# Altium footprint library Connector_PinSocket_1.27mm.PcbLib: 246 footprints (part 10 of 16)
Each footprint in its own frame and in the unit in brackets; x right, y up, seen from the top. Pads: shape width x height; smd on the part's side, far side on the other; paste and mask are expansions set on the pad; w line width, h text height; cw(c..) or ccw(c..) is an arc to the next point about the centre after c.
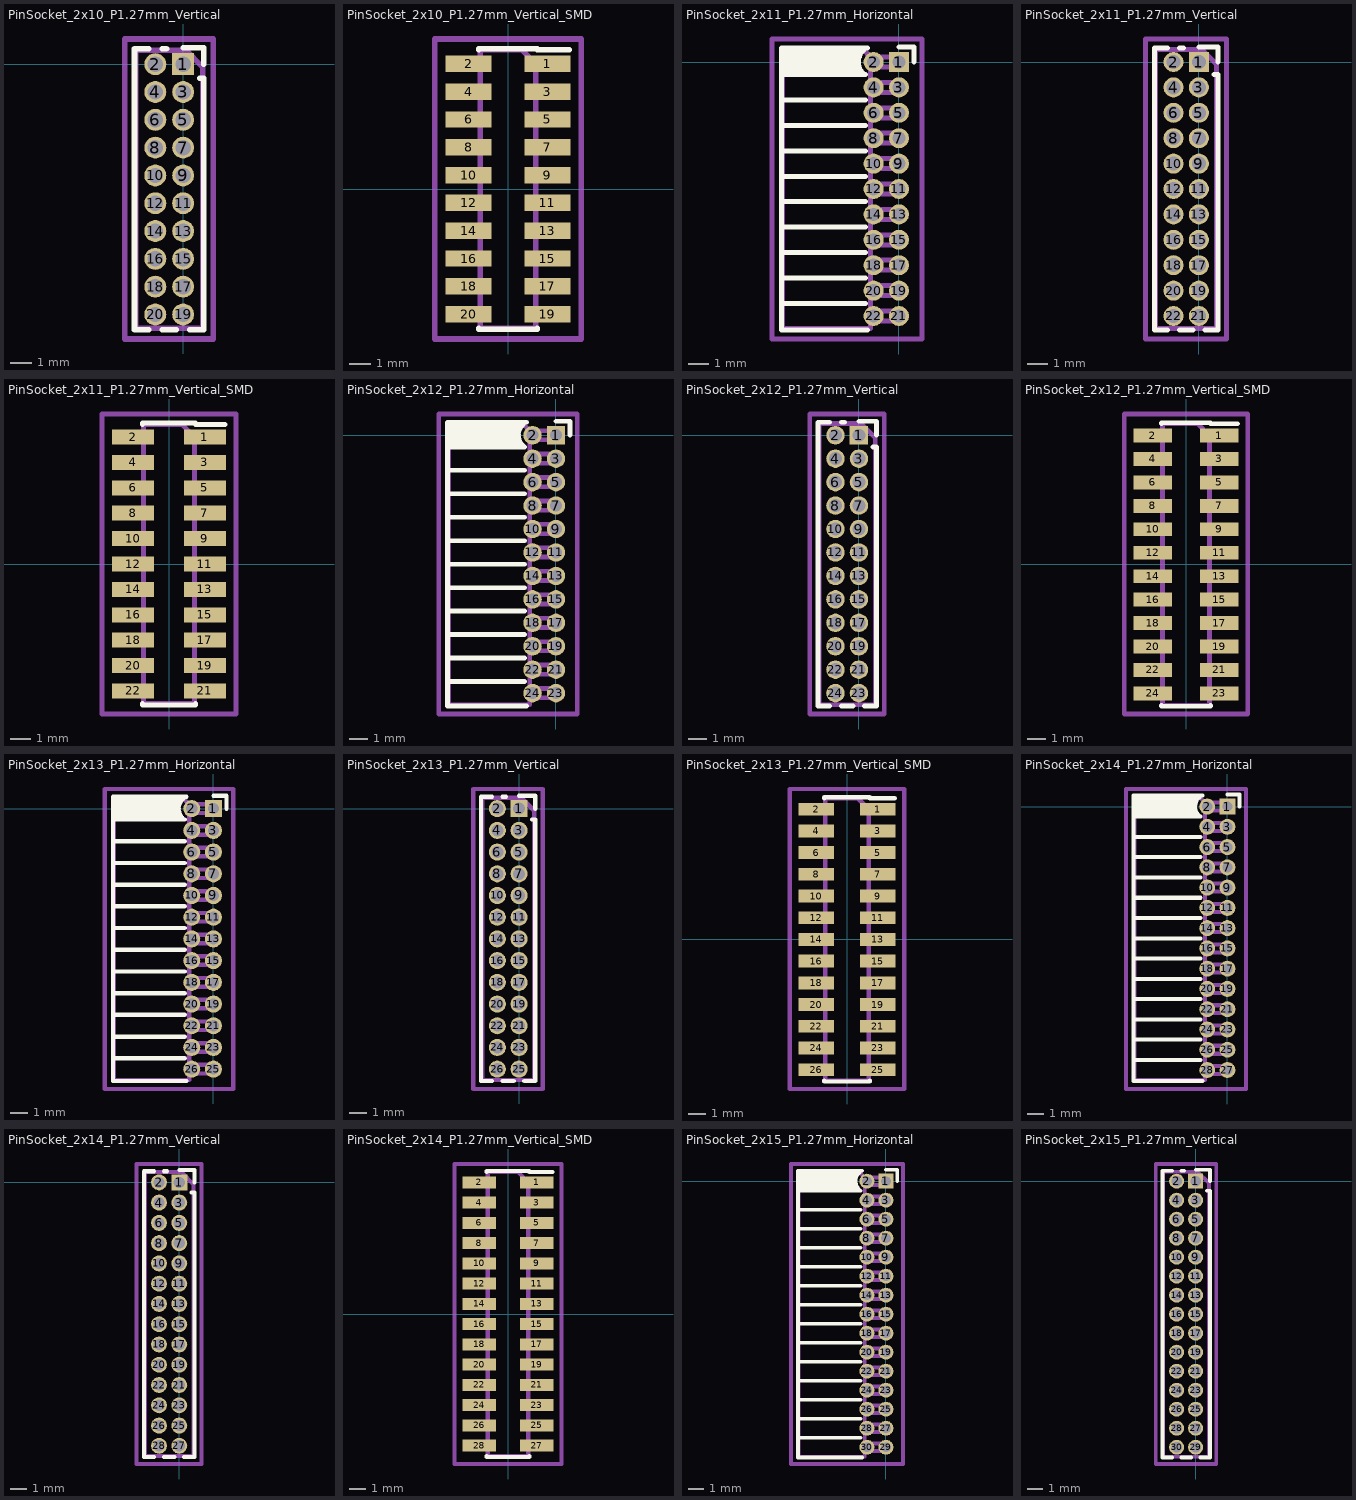
[diagram p9: the footprints below, top view; thin cyan lines are the x and y axes]

## PinSocket_2x10_P1.27mm_Vertical [mm]
pads (20):
  rect 1x1 hole 0.7: 1(0,0)
  round 1 hole 0.7: 2(-1.27,0) 3(0,-1.27) 4(-1.27,-1.27) 5(0,-2.54) 6(-1.27,-2.54) 7(0,-3.81) 8(-1.27,-3.81) 9(0,-5.08) 10(-1.27,-5.08) 11(0,-6.35) 12(-1.27,-6.35) 13(0,-7.62) 14(-1.27,-7.62) 15(0,-8.89) 16(-1.27,-8.89) 17(0,-10.16) 18(-1.27,-10.16) 19(0,-11.43) 20(-1.27,-11.43)
F.SilkS:
  lines w0.254: -1.578,-12.125 -2.22,-12.125 -2.22,0.695 -1.578,0.695 ; -0.962,-12.125 -0.308,-12.125 ; -0.962,0.695 -0.76,0.695 ; 0,0.76 0.95,0.76 0.95,0 ; 0.308,-12.125 0.95,-12.125 0.95,-0.635 0.76,-0.635
Top Assembly:
  lines w0.254: -2.16,-12.065 0.89,-12.065 0.89,-0.128 0.128,0.635 -2.16,0.635 -2.16,-12.065
  text "'.Designator'" at 0.205,-9.762 h1
Top Courtyard:
  lines w0.254: -2.67,-12.55 1.38,-12.55 1.38,1.15 -2.67,1.15 -2.67,-12.55
Top Designator:
  text ".Designator" at -8.263,-6.208 h1.52

## PinSocket_2x10_P1.27mm_Vertical_SMD [mm]
pads (20):
  rect 2.1x0.75 smd: 1(1.8,5.715) 2(-1.8,5.715) 3(1.8,4.445) 4(-1.8,4.445) 5(1.8,3.175) 6(-1.8,3.175) 7(1.8,1.905) 8(-1.8,1.905) 9(1.8,0.635) 10(-1.8,0.635) 11(1.8,-0.635) 12(-1.8,-0.635) 13(1.8,-1.905) 14(-1.8,-1.905) 15(1.8,-3.175) 16(-1.8,-3.175) 17(1.8,-4.445) 18(-1.8,-4.445) 19(1.8,-5.715) 20(-1.8,-5.715)
F.SilkS:
  lines w0.254: -1.33,-6.35 -1.33,-6.41 1.33,-6.41 1.33,-6.35 ; -1.33,6.35 -1.33,6.41 1.33,6.41 1.33,6.35 2.79,6.35
Top Assembly:
  lines w0.254: -1.27,-5.915 -2.555,-5.915 -2.555,-5.515 -1.27,-5.515 ; -1.27,-4.645 -2.555,-4.645 -2.555,-4.245 -1.27,-4.245 ; -1.27,-3.375 -2.555,-3.375 -2.555,-2.975 -1.27,-2.975 ; -1.27,-2.105 -2.555,-2.105 -2.555,-1.705 -1.27,-1.705 ; -1.27,-0.835 -2.555,-0.835 -2.555,-0.435 -1.27,-0.435 ; -1.27,0.435 -2.555,0.435 -2.555,0.835 -1.27,0.835 ; -1.27,1.705 -2.555,1.705 -2.555,2.105 -1.27,2.105 ; -1.27,2.975 -2.555,2.975 -2.555,3.375 -1.27,3.375 ; -1.27,4.245 -2.555,4.245 -2.555,4.645 -1.27,4.645 ; -1.27,5.515 -2.555,5.515 -2.555,5.915 -1.27,5.915 ; 1.27,-5.915 2.555,-5.915 2.555,-5.515 1.27,-5.515 ; 1.27,-4.645 2.555,-4.645 2.555,-4.245 1.27,-4.245 ; 1.27,-3.375 2.555,-3.375 2.555,-2.975 1.27,-2.975 ; 1.27,-2.105 2.555,-2.105 2.555,-1.705 1.27,-1.705 ; 1.27,-0.835 2.555,-0.835 2.555,-0.435 1.27,-0.435 ; 1.27,0.435 2.555,0.435 2.555,0.835 1.27,0.835 ; 1.27,1.705 2.555,1.705 2.555,2.105 1.27,2.105 ; 1.27,2.975 2.555,2.975 2.555,3.375 1.27,3.375 ; 1.27,4.245 2.555,4.245 2.555,4.645 1.27,4.645 ; 1.27,5.515 2.555,5.515 2.555,5.915 1.27,5.915 ; -1.27,-6.35 1.27,-6.35 1.27,5.715 0.635,6.35 -1.27,6.35 -1.27,-6.35
  text "'.Designator'" at 0.84,-4.047 h1
Top Courtyard:
  lines w0.254: -3.35,-6.85 3.35,-6.85 3.35,6.85 -3.35,6.85 -3.35,-6.85
Top Designator:
  text ".Designator" at -7.618,-0.508 h1.52

## PinSocket_2x11_P1.27mm_Horizontal [mm]
pads (22):
  rect 1x1 hole 0.65: 1(0,0)
  round 1 hole 0.65: 2(-1.27,0) 3(0,-1.27) 4(-1.27,-1.27) 5(0,-2.54) 6(-1.27,-2.54) 7(0,-3.81) 8(-1.27,-3.81) 9(0,-5.08) 10(-1.27,-5.08) 11(0,-6.35) 12(-1.27,-6.35) 13(0,-7.62) 14(-1.27,-7.62) 15(0,-8.89) 16(-1.27,-8.89) 17(0,-10.16) 18(-1.27,-10.16) 19(0,-11.43) 20(-1.27,-11.43) 21(0,-12.7) 22(-1.27,-12.7)
F.SilkS:
  lines w0.254: -5.88,-12.065 -1.688,-12.065 ; -5.88,-10.795 -1.688,-10.795 ; -5.88,-9.525 -1.688,-9.525 ; -5.88,-8.255 -1.688,-8.255 ; -5.88,-6.985 -1.688,-6.985 ; -5.88,-5.715 -1.688,-5.715 ; -5.88,-4.445 -1.688,-4.445 ; -5.88,-3.175 -1.688,-3.175 ; -5.88,-1.905 -1.688,-1.905 ; -5.88,-0.635 -1.688,-0.635 ; -5.88,-0.525 -1.82,-0.525 ; -5.88,-0.415 -1.907,-0.415 ; -5.88,-0.305 -1.966,-0.305 ; -5.88,-0.195 -2.005,-0.195 ; -5.88,-0.085 -2.025,-0.085 ; -5.88,0.025 -2.03,0.025 ; -5.88,0.135 -2.018,0.135 ; -5.88,0.245 -1.989,0.245 ; -5.88,0.355 -1.942,0.355 ; -5.88,0.465 -1.871,0.465 ; -5.88,0.575 -1.767,0.575 ; -1.578,-13.395 -5.88,-13.395 -5.88,0.695 -1.578,0.695 ; 0,0.76 0.76,0.76 0.76,0
Top Assembly:
  lines w0.254: -1.42,-12.95 0,-12.95 0,-12.45 -1.42,-12.45 ; -1.42,-11.68 0,-11.68 0,-11.18 -1.42,-11.18 ; -1.42,-10.41 0,-10.41 0,-9.91 -1.42,-9.91 ; -1.42,-9.14 0,-9.14 0,-8.64 -1.42,-8.64 ; -1.42,-7.87 0,-7.87 0,-7.37 -1.42,-7.37 ; -1.42,-6.6 0,-6.6 0,-6.1 -1.42,-6.1 ; -1.42,-5.33 0,-5.33 0,-4.83 -1.42,-4.83 ; -1.42,-4.06 0,-4.06 0,-3.56 -1.42,-3.56 ; -1.42,-2.79 0,-2.79 0,-2.29 -1.42,-2.29 ; -1.42,-1.52 0,-1.52 0,-1.02 -1.42,-1.02 ; -1.42,-0.25 0,-0.25 0,0.25 -1.42,0.25 ; -1.42,0.25 -1.42,-13.335 -5.82,-13.335 -5.82,0.635 -1.805,0.635 -1.42,0.25
  text "'.Designator'" at -2.78,-10.397 h1
Top Courtyard:
  lines w0.254: -6.35,-13.85 1.15,-13.85 1.15,1.15 -6.35,1.15 -6.35,-13.85
Top Designator:
  text ".Designator" at -10.218,-6.858 h1.52

## PinSocket_2x11_P1.27mm_Vertical [mm]
pads (22):
  rect 1x1 hole 0.7: 1(0,0)
  round 1 hole 0.7: 2(-1.27,0) 3(0,-1.27) 4(-1.27,-1.27) 5(0,-2.54) 6(-1.27,-2.54) 7(0,-3.81) 8(-1.27,-3.81) 9(0,-5.08) 10(-1.27,-5.08) 11(0,-6.35) 12(-1.27,-6.35) 13(0,-7.62) 14(-1.27,-7.62) 15(0,-8.89) 16(-1.27,-8.89) 17(0,-10.16) 18(-1.27,-10.16) 19(0,-11.43) 20(-1.27,-11.43) 21(0,-12.7) 22(-1.27,-12.7)
F.SilkS:
  lines w0.254: -1.578,-13.395 -2.22,-13.395 -2.22,0.695 -1.578,0.695 ; -0.962,-13.395 -0.308,-13.395 ; -0.962,0.695 -0.76,0.695 ; 0,0.76 0.95,0.76 0.95,0 ; 0.308,-13.395 0.95,-13.395 0.95,-0.635 0.76,-0.635
Top Assembly:
  lines w0.254: -2.16,-13.335 0.89,-13.335 0.89,-0.128 0.128,0.635 -2.16,0.635 -2.16,-13.335
  text "'.Designator'" at 0.205,-10.397 h1
Top Courtyard:
  lines w0.254: -2.67,-13.85 1.38,-13.85 1.38,1.15 -2.67,1.15 -2.67,-13.85
Top Designator:
  text ".Designator" at -8.263,-6.858 h1.52

## PinSocket_2x11_P1.27mm_Vertical_SMD [mm]
pads (22):
  rect 2.1x0.75 smd: 1(1.8,6.35) 2(-1.8,6.35) 3(1.8,5.08) 4(-1.8,5.08) 5(1.8,3.81) 6(-1.8,3.81) 7(1.8,2.54) 8(-1.8,2.54) 9(1.8,1.27) 10(-1.8,1.27) 11(1.8,0) 12(-1.8,0) 13(1.8,-1.27) 14(-1.8,-1.27) 15(1.8,-2.54) 16(-1.8,-2.54) 17(1.8,-3.81) 18(-1.8,-3.81) 19(1.8,-5.08) 20(-1.8,-5.08) 21(1.8,-6.35) 22(-1.8,-6.35)
F.SilkS:
  lines w0.254: -1.33,-6.985 -1.33,-7.045 1.33,-7.045 1.33,-6.985 ; -1.33,6.985 -1.33,7.045 1.33,7.045 1.33,6.985 2.79,6.985
Top Assembly:
  lines w0.254: -1.27,-6.55 -2.555,-6.55 -2.555,-6.15 -1.27,-6.15 ; -1.27,-5.28 -2.555,-5.28 -2.555,-4.88 -1.27,-4.88 ; -1.27,-4.01 -2.555,-4.01 -2.555,-3.61 -1.27,-3.61 ; -1.27,-2.74 -2.555,-2.74 -2.555,-2.34 -1.27,-2.34 ; -1.27,-1.47 -2.555,-1.47 -2.555,-1.07 -1.27,-1.07 ; -1.27,-0.2 -2.555,-0.2 -2.555,0.2 -1.27,0.2 ; -1.27,1.07 -2.555,1.07 -2.555,1.47 -1.27,1.47 ; -1.27,2.34 -2.555,2.34 -2.555,2.74 -1.27,2.74 ; -1.27,3.61 -2.555,3.61 -2.555,4.01 -1.27,4.01 ; -1.27,4.88 -2.555,4.88 -2.555,5.28 -1.27,5.28 ; -1.27,6.15 -2.555,6.15 -2.555,6.55 -1.27,6.55 ; 1.27,-6.55 2.555,-6.55 2.555,-6.15 1.27,-6.15 ; 1.27,-5.28 2.555,-5.28 2.555,-4.88 1.27,-4.88 ; 1.27,-4.01 2.555,-4.01 2.555,-3.61 1.27,-3.61 ; 1.27,-2.74 2.555,-2.74 2.555,-2.34 1.27,-2.34 ; 1.27,-1.47 2.555,-1.47 2.555,-1.07 1.27,-1.07 ; 1.27,-0.2 2.555,-0.2 2.555,0.2 1.27,0.2 ; 1.27,1.07 2.555,1.07 2.555,1.47 1.27,1.47 ; 1.27,2.34 2.555,2.34 2.555,2.74 1.27,2.74 ; 1.27,3.61 2.555,3.61 2.555,4.01 1.27,4.01 ; 1.27,4.88 2.555,4.88 2.555,5.28 1.27,5.28 ; 1.27,6.15 2.555,6.15 2.555,6.55 1.27,6.55 ; -1.27,-6.985 1.27,-6.985 1.27,6.35 0.635,6.985 -1.27,6.985 -1.27,-6.985
  text "'.Designator'" at 0.84,-4.047 h1
Top Courtyard:
  lines w0.254: -3.35,-7.5 3.35,-7.5 3.35,7.5 -3.35,7.5 -3.35,-7.5
Top Designator:
  text ".Designator" at -7.618,-0.508 h1.52

## PinSocket_2x12_P1.27mm_Horizontal [mm]
pads (24):
  rect 1x1 hole 0.65: 1(0,0)
  round 1 hole 0.65: 2(-1.27,0) 3(0,-1.27) 4(-1.27,-1.27) 5(0,-2.54) 6(-1.27,-2.54) 7(0,-3.81) 8(-1.27,-3.81) 9(0,-5.08) 10(-1.27,-5.08) 11(0,-6.35) 12(-1.27,-6.35) 13(0,-7.62) 14(-1.27,-7.62) 15(0,-8.89) 16(-1.27,-8.89) 17(0,-10.16) 18(-1.27,-10.16) 19(0,-11.43) 20(-1.27,-11.43) 21(0,-12.7) 22(-1.27,-12.7) 23(0,-13.97) 24(-1.27,-13.97)
F.SilkS:
  lines w0.254: -5.88,-13.335 -1.688,-13.335 ; -5.88,-12.065 -1.688,-12.065 ; -5.88,-10.795 -1.688,-10.795 ; -5.88,-9.525 -1.688,-9.525 ; -5.88,-8.255 -1.688,-8.255 ; -5.88,-6.985 -1.688,-6.985 ; -5.88,-5.715 -1.688,-5.715 ; -5.88,-4.445 -1.688,-4.445 ; -5.88,-3.175 -1.688,-3.175 ; -5.88,-1.905 -1.688,-1.905 ; -5.88,-0.635 -1.688,-0.635 ; -5.88,-0.525 -1.82,-0.525 ; -5.88,-0.415 -1.907,-0.415 ; -5.88,-0.305 -1.966,-0.305 ; -5.88,-0.195 -2.005,-0.195 ; -5.88,-0.085 -2.025,-0.085 ; -5.88,0.025 -2.03,0.025 ; -5.88,0.135 -2.018,0.135 ; -5.88,0.245 -1.989,0.245 ; -5.88,0.355 -1.942,0.355 ; -5.88,0.465 -1.871,0.465 ; -5.88,0.575 -1.767,0.575 ; -1.578,-14.665 -5.88,-14.665 -5.88,0.695 -1.578,0.695 ; 0,0.76 0.76,0.76 0.76,0
Top Assembly:
  lines w0.254: -1.42,-14.22 0,-14.22 0,-13.72 -1.42,-13.72 ; -1.42,-12.95 0,-12.95 0,-12.45 -1.42,-12.45 ; -1.42,-11.68 0,-11.68 0,-11.18 -1.42,-11.18 ; -1.42,-10.41 0,-10.41 0,-9.91 -1.42,-9.91 ; -1.42,-9.14 0,-9.14 0,-8.64 -1.42,-8.64 ; -1.42,-7.87 0,-7.87 0,-7.37 -1.42,-7.37 ; -1.42,-6.6 0,-6.6 0,-6.1 -1.42,-6.1 ; -1.42,-5.33 0,-5.33 0,-4.83 -1.42,-4.83 ; -1.42,-4.06 0,-4.06 0,-3.56 -1.42,-3.56 ; -1.42,-2.79 0,-2.79 0,-2.29 -1.42,-2.29 ; -1.42,-1.52 0,-1.52 0,-1.02 -1.42,-1.02 ; -1.42,-0.25 0,-0.25 0,0.25 -1.42,0.25 ; -1.42,0.25 -1.42,-14.605 -5.82,-14.605 -5.82,0.635 -1.805,0.635 -1.42,0.25
  text "'.Designator'" at -2.78,-11.032 h1
Top Courtyard:
  lines w0.254: -6.35,-15.1 1.15,-15.1 1.15,1.15 -6.35,1.15 -6.35,-15.1
Top Designator:
  text ".Designator" at -10.218,-7.483 h1.52

## PinSocket_2x12_P1.27mm_Vertical [mm]
pads (24):
  rect 1x1 hole 0.7: 1(0,0)
  round 1 hole 0.7: 2(-1.27,0) 3(0,-1.27) 4(-1.27,-1.27) 5(0,-2.54) 6(-1.27,-2.54) 7(0,-3.81) 8(-1.27,-3.81) 9(0,-5.08) 10(-1.27,-5.08) 11(0,-6.35) 12(-1.27,-6.35) 13(0,-7.62) 14(-1.27,-7.62) 15(0,-8.89) 16(-1.27,-8.89) 17(0,-10.16) 18(-1.27,-10.16) 19(0,-11.43) 20(-1.27,-11.43) 21(0,-12.7) 22(-1.27,-12.7) 23(0,-13.97) 24(-1.27,-13.97)
F.SilkS:
  lines w0.254: -1.578,-14.665 -2.22,-14.665 -2.22,0.695 -1.578,0.695 ; -0.962,-14.665 -0.308,-14.665 ; -0.962,0.695 -0.76,0.695 ; 0,0.76 0.95,0.76 0.95,0 ; 0.308,-14.665 0.95,-14.665 0.95,-0.635 0.76,-0.635
Top Assembly:
  lines w0.254: -2.16,-14.605 0.89,-14.605 0.89,-0.128 0.128,0.635 -2.16,0.635 -2.16,-14.605
  text "'.Designator'" at 0.205,-11.032 h1
Top Courtyard:
  lines w0.254: -2.67,-15.1 1.38,-15.1 1.38,1.15 -2.67,1.15 -2.67,-15.1
Top Designator:
  text ".Designator" at -8.263,-7.483 h1.52

## PinSocket_2x12_P1.27mm_Vertical_SMD [mm]
pads (24):
  rect 2.1x0.75 smd: 1(1.8,6.985) 2(-1.8,6.985) 3(1.8,5.715) 4(-1.8,5.715) 5(1.8,4.445) 6(-1.8,4.445) 7(1.8,3.175) 8(-1.8,3.175) 9(1.8,1.905) 10(-1.8,1.905) 11(1.8,0.635) 12(-1.8,0.635) 13(1.8,-0.635) 14(-1.8,-0.635) 15(1.8,-1.905) 16(-1.8,-1.905) 17(1.8,-3.175) 18(-1.8,-3.175) 19(1.8,-4.445) 20(-1.8,-4.445) 21(1.8,-5.715) 22(-1.8,-5.715) 23(1.8,-6.985) 24(-1.8,-6.985)
F.SilkS:
  lines w0.254: -1.33,-7.62 -1.33,-7.68 1.33,-7.68 1.33,-7.62 ; -1.33,7.62 -1.33,7.68 1.33,7.68 1.33,7.62 2.79,7.62
Top Assembly:
  lines w0.254: -1.27,-7.185 -2.555,-7.185 -2.555,-6.785 -1.27,-6.785 ; -1.27,-5.915 -2.555,-5.915 -2.555,-5.515 -1.27,-5.515 ; -1.27,-4.645 -2.555,-4.645 -2.555,-4.245 -1.27,-4.245 ; -1.27,-3.375 -2.555,-3.375 -2.555,-2.975 -1.27,-2.975 ; -1.27,-2.105 -2.555,-2.105 -2.555,-1.705 -1.27,-1.705 ; -1.27,-0.835 -2.555,-0.835 -2.555,-0.435 -1.27,-0.435 ; -1.27,0.435 -2.555,0.435 -2.555,0.835 -1.27,0.835 ; -1.27,1.705 -2.555,1.705 -2.555,2.105 -1.27,2.105 ; -1.27,2.975 -2.555,2.975 -2.555,3.375 -1.27,3.375 ; -1.27,4.245 -2.555,4.245 -2.555,4.645 -1.27,4.645 ; -1.27,5.515 -2.555,5.515 -2.555,5.915 -1.27,5.915 ; -1.27,6.785 -2.555,6.785 -2.555,7.185 -1.27,7.185 ; 1.27,-7.185 2.555,-7.185 2.555,-6.785 1.27,-6.785 ; 1.27,-5.915 2.555,-5.915 2.555,-5.515 1.27,-5.515 ; 1.27,-4.645 2.555,-4.645 2.555,-4.245 1.27,-4.245 ; 1.27,-3.375 2.555,-3.375 2.555,-2.975 1.27,-2.975 ; 1.27,-2.105 2.555,-2.105 2.555,-1.705 1.27,-1.705 ; 1.27,-0.835 2.555,-0.835 2.555,-0.435 1.27,-0.435 ; 1.27,0.435 2.555,0.435 2.555,0.835 1.27,0.835 ; 1.27,1.705 2.555,1.705 2.555,2.105 1.27,2.105 ; 1.27,2.975 2.555,2.975 2.555,3.375 1.27,3.375 ; 1.27,4.245 2.555,4.245 2.555,4.645 1.27,4.645 ; 1.27,5.515 2.555,5.515 2.555,5.915 1.27,5.915 ; 1.27,6.785 2.555,6.785 2.555,7.185 1.27,7.185 ; -1.27,-7.62 1.27,-7.62 1.27,6.985 0.635,7.62 -1.27,7.62 -1.27,-7.62
  text "'.Designator'" at 0.84,-4.047 h1
Top Courtyard:
  lines w0.254: -3.35,-8.1 3.35,-8.1 3.35,8.15 -3.35,8.15 -3.35,-8.1
Top Designator:
  text ".Designator" at -7.618,-0.483 h1.52

## PinSocket_2x13_P1.27mm_Horizontal [mm]
pads (26):
  rect 1x1 hole 0.65: 1(0,0)
  round 1 hole 0.65: 2(-1.27,0) 3(0,-1.27) 4(-1.27,-1.27) 5(0,-2.54) 6(-1.27,-2.54) 7(0,-3.81) 8(-1.27,-3.81) 9(0,-5.08) 10(-1.27,-5.08) 11(0,-6.35) 12(-1.27,-6.35) 13(0,-7.62) 14(-1.27,-7.62) 15(0,-8.89) 16(-1.27,-8.89) 17(0,-10.16) 18(-1.27,-10.16) 19(0,-11.43) 20(-1.27,-11.43) 21(0,-12.7) 22(-1.27,-12.7) 23(0,-13.97) 24(-1.27,-13.97) 25(0,-15.24) 26(-1.27,-15.24)
F.SilkS:
  lines w0.254: -5.88,-14.605 -1.688,-14.605 ; -5.88,-13.335 -1.688,-13.335 ; -5.88,-12.065 -1.688,-12.065 ; -5.88,-10.795 -1.688,-10.795 ; -5.88,-9.525 -1.688,-9.525 ; -5.88,-8.255 -1.688,-8.255 ; -5.88,-6.985 -1.688,-6.985 ; -5.88,-5.715 -1.688,-5.715 ; -5.88,-4.445 -1.688,-4.445 ; -5.88,-3.175 -1.688,-3.175 ; -5.88,-1.905 -1.688,-1.905 ; -5.88,-0.635 -1.688,-0.635 ; -5.88,-0.525 -1.82,-0.525 ; -5.88,-0.415 -1.907,-0.415 ; -5.88,-0.305 -1.966,-0.305 ; -5.88,-0.195 -2.005,-0.195 ; -5.88,-0.085 -2.025,-0.085 ; -5.88,0.025 -2.03,0.025 ; -5.88,0.135 -2.018,0.135 ; -5.88,0.245 -1.989,0.245 ; -5.88,0.355 -1.942,0.355 ; -5.88,0.465 -1.871,0.465 ; -5.88,0.575 -1.767,0.575 ; -1.578,-15.935 -5.88,-15.935 -5.88,0.695 -1.578,0.695 ; 0,0.76 0.76,0.76 0.76,0
Top Assembly:
  lines w0.254: -1.42,-15.49 0,-15.49 0,-14.99 -1.42,-14.99 ; -1.42,-14.22 0,-14.22 0,-13.72 -1.42,-13.72 ; -1.42,-12.95 0,-12.95 0,-12.45 -1.42,-12.45 ; -1.42,-11.68 0,-11.68 0,-11.18 -1.42,-11.18 ; -1.42,-10.41 0,-10.41 0,-9.91 -1.42,-9.91 ; -1.42,-9.14 0,-9.14 0,-8.64 -1.42,-8.64 ; -1.42,-7.87 0,-7.87 0,-7.37 -1.42,-7.37 ; -1.42,-6.6 0,-6.6 0,-6.1 -1.42,-6.1 ; -1.42,-5.33 0,-5.33 0,-4.83 -1.42,-4.83 ; -1.42,-4.06 0,-4.06 0,-3.56 -1.42,-3.56 ; -1.42,-2.79 0,-2.79 0,-2.29 -1.42,-2.29 ; -1.42,-1.52 0,-1.52 0,-1.02 -1.42,-1.02 ; -1.42,-0.25 0,-0.25 0,0.25 -1.42,0.25 ; -1.42,0.25 -1.42,-15.875 -5.82,-15.875 -5.82,0.635 -1.805,0.635 -1.42,0.25
  text "'.Designator'" at -2.78,-11.667 h1
Top Courtyard:
  lines w0.254: -6.35,-16.4 1.15,-16.4 1.15,1.15 -6.35,1.15 -6.35,-16.4
Top Designator:
  text ".Designator" at -10.218,-8.133 h1.52

## PinSocket_2x13_P1.27mm_Vertical [mm]
pads (26):
  rect 1x1 hole 0.7: 1(0,0)
  round 1 hole 0.7: 2(-1.27,0) 3(0,-1.27) 4(-1.27,-1.27) 5(0,-2.54) 6(-1.27,-2.54) 7(0,-3.81) 8(-1.27,-3.81) 9(0,-5.08) 10(-1.27,-5.08) 11(0,-6.35) 12(-1.27,-6.35) 13(0,-7.62) 14(-1.27,-7.62) 15(0,-8.89) 16(-1.27,-8.89) 17(0,-10.16) 18(-1.27,-10.16) 19(0,-11.43) 20(-1.27,-11.43) 21(0,-12.7) 22(-1.27,-12.7) 23(0,-13.97) 24(-1.27,-13.97) 25(0,-15.24) 26(-1.27,-15.24)
F.SilkS:
  lines w0.254: -1.578,-15.935 -2.22,-15.935 -2.22,0.695 -1.578,0.695 ; -0.962,-15.935 -0.308,-15.935 ; -0.962,0.695 -0.76,0.695 ; 0,0.76 0.95,0.76 0.95,0 ; 0.308,-15.935 0.95,-15.935 0.95,-0.635 0.76,-0.635
Top Assembly:
  lines w0.254: -2.16,-15.875 0.89,-15.875 0.89,-0.128 0.128,0.635 -2.16,0.635 -2.16,-15.875
  text "'.Designator'" at 0.205,-11.667 h1
Top Courtyard:
  lines w0.254: -2.67,-16.4 1.38,-16.4 1.38,1.15 -2.67,1.15 -2.67,-16.4
Top Designator:
  text ".Designator" at -8.263,-8.133 h1.52

## PinSocket_2x13_P1.27mm_Vertical_SMD [mm]
pads (26):
  rect 2.1x0.75 smd: 1(1.8,7.62) 2(-1.8,7.62) 3(1.8,6.35) 4(-1.8,6.35) 5(1.8,5.08) 6(-1.8,5.08) 7(1.8,3.81) 8(-1.8,3.81) 9(1.8,2.54) 10(-1.8,2.54) 11(1.8,1.27) 12(-1.8,1.27) 13(1.8,0) 14(-1.8,0) 15(1.8,-1.27) 16(-1.8,-1.27) 17(1.8,-2.54) 18(-1.8,-2.54) 19(1.8,-3.81) 20(-1.8,-3.81) 21(1.8,-5.08) 22(-1.8,-5.08) 23(1.8,-6.35) 24(-1.8,-6.35) 25(1.8,-7.62) 26(-1.8,-7.62)
F.SilkS:
  lines w0.254: -1.33,-8.255 -1.33,-8.315 1.33,-8.315 1.33,-8.255 ; -1.33,8.255 -1.33,8.315 1.33,8.315 1.33,8.255 2.79,8.255
Top Assembly:
  lines w0.254: -1.27,-7.82 -2.555,-7.82 -2.555,-7.42 -1.27,-7.42 ; -1.27,-6.55 -2.555,-6.55 -2.555,-6.15 -1.27,-6.15 ; -1.27,-5.28 -2.555,-5.28 -2.555,-4.88 -1.27,-4.88 ; -1.27,-4.01 -2.555,-4.01 -2.555,-3.61 -1.27,-3.61 ; -1.27,-2.74 -2.555,-2.74 -2.555,-2.34 -1.27,-2.34 ; -1.27,-1.47 -2.555,-1.47 -2.555,-1.07 -1.27,-1.07 ; -1.27,-0.2 -2.555,-0.2 -2.555,0.2 -1.27,0.2 ; -1.27,1.07 -2.555,1.07 -2.555,1.47 -1.27,1.47 ; -1.27,2.34 -2.555,2.34 -2.555,2.74 -1.27,2.74 ; -1.27,3.61 -2.555,3.61 -2.555,4.01 -1.27,4.01 ; -1.27,4.88 -2.555,4.88 -2.555,5.28 -1.27,5.28 ; -1.27,6.15 -2.555,6.15 -2.555,6.55 -1.27,6.55 ; -1.27,7.42 -2.555,7.42 -2.555,7.82 -1.27,7.82 ; 1.27,-7.82 2.555,-7.82 2.555,-7.42 1.27,-7.42 ; 1.27,-6.55 2.555,-6.55 2.555,-6.15 1.27,-6.15 ; 1.27,-5.28 2.555,-5.28 2.555,-4.88 1.27,-4.88 ; 1.27,-4.01 2.555,-4.01 2.555,-3.61 1.27,-3.61 ; 1.27,-2.74 2.555,-2.74 2.555,-2.34 1.27,-2.34 ; 1.27,-1.47 2.555,-1.47 2.555,-1.07 1.27,-1.07 ; 1.27,-0.2 2.555,-0.2 2.555,0.2 1.27,0.2 ; 1.27,1.07 2.555,1.07 2.555,1.47 1.27,1.47 ; 1.27,2.34 2.555,2.34 2.555,2.74 1.27,2.74 ; 1.27,3.61 2.555,3.61 2.555,4.01 1.27,4.01 ; 1.27,4.88 2.555,4.88 2.555,5.28 1.27,5.28 ; 1.27,6.15 2.555,6.15 2.555,6.55 1.27,6.55 ; 1.27,7.42 2.555,7.42 2.555,7.82 1.27,7.82 ; -1.27,-8.255 1.27,-8.255 1.27,7.62 0.635,8.255 -1.27,8.255 -1.27,-8.255
  text "'.Designator'" at 0.84,-4.047 h1
Top Courtyard:
  lines w0.254: -3.35,-8.75 3.35,-8.75 3.35,8.8 -3.35,8.8 -3.35,-8.75
Top Designator:
  text ".Designator" at -7.618,-0.483 h1.52

## PinSocket_2x14_P1.27mm_Horizontal [mm]
pads (28):
  rect 1x1 hole 0.65: 1(0,0)
  round 1 hole 0.65: 2(-1.27,0) 3(0,-1.27) 4(-1.27,-1.27) 5(0,-2.54) 6(-1.27,-2.54) 7(0,-3.81) 8(-1.27,-3.81) 9(0,-5.08) 10(-1.27,-5.08) 11(0,-6.35) 12(-1.27,-6.35) 13(0,-7.62) 14(-1.27,-7.62) 15(0,-8.89) 16(-1.27,-8.89) 17(0,-10.16) 18(-1.27,-10.16) 19(0,-11.43) 20(-1.27,-11.43) 21(0,-12.7) 22(-1.27,-12.7) 23(0,-13.97) 24(-1.27,-13.97) 25(0,-15.24) 26(-1.27,-15.24) 27(0,-16.51) 28(-1.27,-16.51)
F.SilkS:
  lines w0.254: -5.88,-15.875 -1.688,-15.875 ; -5.88,-14.605 -1.688,-14.605 ; -5.88,-13.335 -1.688,-13.335 ; -5.88,-12.065 -1.688,-12.065 ; -5.88,-10.795 -1.688,-10.795 ; -5.88,-9.525 -1.688,-9.525 ; -5.88,-8.255 -1.688,-8.255 ; -5.88,-6.985 -1.688,-6.985 ; -5.88,-5.715 -1.688,-5.715 ; -5.88,-4.445 -1.688,-4.445 ; -5.88,-3.175 -1.688,-3.175 ; -5.88,-1.905 -1.688,-1.905 ; -5.88,-0.635 -1.688,-0.635 ; -5.88,-0.525 -1.82,-0.525 ; -5.88,-0.415 -1.907,-0.415 ; -5.88,-0.305 -1.966,-0.305 ; -5.88,-0.195 -2.005,-0.195 ; -5.88,-0.085 -2.025,-0.085 ; -5.88,0.025 -2.03,0.025 ; -5.88,0.135 -2.018,0.135 ; -5.88,0.245 -1.989,0.245 ; -5.88,0.355 -1.942,0.355 ; -5.88,0.465 -1.871,0.465 ; -5.88,0.575 -1.767,0.575 ; -1.578,-17.205 -5.88,-17.205 -5.88,0.695 -1.578,0.695 ; 0,0.76 0.76,0.76 0.76,0
Top Assembly:
  lines w0.254: -1.42,-16.76 0,-16.76 0,-16.26 -1.42,-16.26 ; -1.42,-15.49 0,-15.49 0,-14.99 -1.42,-14.99 ; -1.42,-14.22 0,-14.22 0,-13.72 -1.42,-13.72 ; -1.42,-12.95 0,-12.95 0,-12.45 -1.42,-12.45 ; -1.42,-11.68 0,-11.68 0,-11.18 -1.42,-11.18 ; -1.42,-10.41 0,-10.41 0,-9.91 -1.42,-9.91 ; -1.42,-9.14 0,-9.14 0,-8.64 -1.42,-8.64 ; -1.42,-7.87 0,-7.87 0,-7.37 -1.42,-7.37 ; -1.42,-6.6 0,-6.6 0,-6.1 -1.42,-6.1 ; -1.42,-5.33 0,-5.33 0,-4.83 -1.42,-4.83 ; -1.42,-4.06 0,-4.06 0,-3.56 -1.42,-3.56 ; -1.42,-2.79 0,-2.79 0,-2.29 -1.42,-2.29 ; -1.42,-1.52 0,-1.52 0,-1.02 -1.42,-1.02 ; -1.42,-0.25 0,-0.25 0,0.25 -1.42,0.25 ; -1.42,0.25 -1.42,-17.145 -5.82,-17.145 -5.82,0.635 -1.805,0.635 -1.42,0.25
  text "'.Designator'" at -2.78,-12.302 h1
Top Courtyard:
  lines w0.254: -6.35,-17.7 1.15,-17.7 1.15,1.1 -6.35,1.1 -6.35,-17.7
Top Designator:
  text ".Designator" at -10.218,-8.808 h1.52

## PinSocket_2x14_P1.27mm_Vertical [mm]
pads (28):
  rect 1x1 hole 0.7: 1(0,0)
  round 1 hole 0.7: 2(-1.27,0) 3(0,-1.27) 4(-1.27,-1.27) 5(0,-2.54) 6(-1.27,-2.54) 7(0,-3.81) 8(-1.27,-3.81) 9(0,-5.08) 10(-1.27,-5.08) 11(0,-6.35) 12(-1.27,-6.35) 13(0,-7.62) 14(-1.27,-7.62) 15(0,-8.89) 16(-1.27,-8.89) 17(0,-10.16) 18(-1.27,-10.16) 19(0,-11.43) 20(-1.27,-11.43) 21(0,-12.7) 22(-1.27,-12.7) 23(0,-13.97) 24(-1.27,-13.97) 25(0,-15.24) 26(-1.27,-15.24) 27(0,-16.51) 28(-1.27,-16.51)
F.SilkS:
  lines w0.254: -1.578,-17.205 -2.22,-17.205 -2.22,0.695 -1.578,0.695 ; -0.962,-17.205 -0.308,-17.205 ; -0.962,0.695 -0.76,0.695 ; 0,0.76 0.95,0.76 0.95,0 ; 0.308,-17.205 0.95,-17.205 0.95,-0.635 0.76,-0.635
Top Assembly:
  lines w0.254: -2.16,-17.145 0.89,-17.145 0.89,-0.128 0.128,0.635 -2.16,0.635 -2.16,-17.145
  text "'.Designator'" at 0.205,-12.302 h1
Top Courtyard:
  lines w0.254: -2.67,-17.65 1.38,-17.65 1.38,1.15 -2.67,1.15 -2.67,-17.65
Top Designator:
  text ".Designator" at -8.263,-8.758 h1.52

## PinSocket_2x14_P1.27mm_Vertical_SMD [mm]
pads (28):
  rect 2.1x0.75 smd: 1(1.8,8.255) 2(-1.8,8.255) 3(1.8,6.985) 4(-1.8,6.985) 5(1.8,5.715) 6(-1.8,5.715) 7(1.8,4.445) 8(-1.8,4.445) 9(1.8,3.175) 10(-1.8,3.175) 11(1.8,1.905) 12(-1.8,1.905) 13(1.8,0.635) 14(-1.8,0.635) 15(1.8,-0.635) 16(-1.8,-0.635) 17(1.8,-1.905) 18(-1.8,-1.905) 19(1.8,-3.175) 20(-1.8,-3.175) 21(1.8,-4.445) 22(-1.8,-4.445) 23(1.8,-5.715) 24(-1.8,-5.715) 25(1.8,-6.985) 26(-1.8,-6.985) 27(1.8,-8.255) 28(-1.8,-8.255)
F.SilkS:
  lines w0.254: -1.33,-8.89 -1.33,-8.95 1.33,-8.95 1.33,-8.89 ; -1.33,8.89 -1.33,8.95 1.33,8.95 1.33,8.89 2.79,8.89
Top Assembly:
  lines w0.254: -1.27,-8.455 -2.555,-8.455 -2.555,-8.055 -1.27,-8.055 ; -1.27,-7.185 -2.555,-7.185 -2.555,-6.785 -1.27,-6.785 ; -1.27,-5.915 -2.555,-5.915 -2.555,-5.515 -1.27,-5.515 ; -1.27,-4.645 -2.555,-4.645 -2.555,-4.245 -1.27,-4.245 ; -1.27,-3.375 -2.555,-3.375 -2.555,-2.975 -1.27,-2.975 ; -1.27,-2.105 -2.555,-2.105 -2.555,-1.705 -1.27,-1.705 ; -1.27,-0.835 -2.555,-0.835 -2.555,-0.435 -1.27,-0.435 ; -1.27,0.435 -2.555,0.435 -2.555,0.835 -1.27,0.835 ; -1.27,1.705 -2.555,1.705 -2.555,2.105 -1.27,2.105 ; -1.27,2.975 -2.555,2.975 -2.555,3.375 -1.27,3.375 ; -1.27,4.245 -2.555,4.245 -2.555,4.645 -1.27,4.645 ; -1.27,5.515 -2.555,5.515 -2.555,5.915 -1.27,5.915 ; -1.27,6.785 -2.555,6.785 -2.555,7.185 -1.27,7.185 ; -1.27,8.055 -2.555,8.055 -2.555,8.455 -1.27,8.455 ; 1.27,-8.455 2.555,-8.455 2.555,-8.055 1.27,-8.055 ; 1.27,-7.185 2.555,-7.185 2.555,-6.785 1.27,-6.785 ; 1.27,-5.915 2.555,-5.915 2.555,-5.515 1.27,-5.515 ; 1.27,-4.645 2.555,-4.645 2.555,-4.245 1.27,-4.245 ; 1.27,-3.375 2.555,-3.375 2.555,-2.975 1.27,-2.975 ; 1.27,-2.105 2.555,-2.105 2.555,-1.705 1.27,-1.705 ; 1.27,-0.835 2.555,-0.835 2.555,-0.435 1.27,-0.435 ; 1.27,0.435 2.555,0.435 2.555,0.835 1.27,0.835 ; 1.27,1.705 2.555,1.705 2.555,2.105 1.27,2.105 ; 1.27,2.975 2.555,2.975 2.555,3.375 1.27,3.375 ; 1.27,4.245 2.555,4.245 2.555,4.645 1.27,4.645 ; 1.27,5.515 2.555,5.515 2.555,5.915 1.27,5.915 ; 1.27,6.785 2.555,6.785 2.555,7.185 1.27,7.185 ; 1.27,8.055 2.555,8.055 2.555,8.455 1.27,8.455 ; -1.27,-8.89 1.27,-8.89 1.27,8.255 0.635,8.89 -1.27,8.89 -1.27,-8.89
  text "'.Designator'" at 0.84,-4.047 h1
Top Courtyard:
  lines w0.254: -3.35,-9.4 3.35,-9.4 3.35,9.4 -3.35,9.4 -3.35,-9.4
Top Designator:
  text ".Designator" at -7.618,-0.508 h1.52

## PinSocket_2x15_P1.27mm_Horizontal [mm]
pads (30):
  rect 1x1 hole 0.65: 1(0,0)
  round 1 hole 0.65: 2(-1.27,0) 3(0,-1.27) 4(-1.27,-1.27) 5(0,-2.54) 6(-1.27,-2.54) 7(0,-3.81) 8(-1.27,-3.81) 9(0,-5.08) 10(-1.27,-5.08) 11(0,-6.35) 12(-1.27,-6.35) 13(0,-7.62) 14(-1.27,-7.62) 15(0,-8.89) 16(-1.27,-8.89) 17(0,-10.16) 18(-1.27,-10.16) 19(0,-11.43) 20(-1.27,-11.43) 21(0,-12.7) 22(-1.27,-12.7) 23(0,-13.97) 24(-1.27,-13.97) 25(0,-15.24) 26(-1.27,-15.24) 27(0,-16.51) 28(-1.27,-16.51) 29(0,-17.78) 30(-1.27,-17.78)
F.SilkS:
  lines w0.254: -5.88,-17.145 -1.688,-17.145 ; -5.88,-15.875 -1.688,-15.875 ; -5.88,-14.605 -1.688,-14.605 ; -5.88,-13.335 -1.688,-13.335 ; -5.88,-12.065 -1.688,-12.065 ; -5.88,-10.795 -1.688,-10.795 ; -5.88,-9.525 -1.688,-9.525 ; -5.88,-8.255 -1.688,-8.255 ; -5.88,-6.985 -1.688,-6.985 ; -5.88,-5.715 -1.688,-5.715 ; -5.88,-4.445 -1.688,-4.445 ; -5.88,-3.175 -1.688,-3.175 ; -5.88,-1.905 -1.688,-1.905 ; -5.88,-0.635 -1.688,-0.635 ; -5.88,-0.525 -1.82,-0.525 ; -5.88,-0.415 -1.907,-0.415 ; -5.88,-0.305 -1.966,-0.305 ; -5.88,-0.195 -2.005,-0.195 ; -5.88,-0.085 -2.025,-0.085 ; -5.88,0.025 -2.03,0.025 ; -5.88,0.135 -2.018,0.135 ; -5.88,0.245 -1.989,0.245 ; -5.88,0.355 -1.942,0.355 ; -5.88,0.465 -1.871,0.465 ; -5.88,0.575 -1.767,0.575 ; -1.578,-18.475 -5.88,-18.475 -5.88,0.695 -1.578,0.695 ; 0,0.76 0.76,0.76 0.76,0
Top Assembly:
  lines w0.254: -1.42,-18.03 0,-18.03 0,-17.53 -1.42,-17.53 ; -1.42,-16.76 0,-16.76 0,-16.26 -1.42,-16.26 ; -1.42,-15.49 0,-15.49 0,-14.99 -1.42,-14.99 ; -1.42,-14.22 0,-14.22 0,-13.72 -1.42,-13.72 ; -1.42,-12.95 0,-12.95 0,-12.45 -1.42,-12.45 ; -1.42,-11.68 0,-11.68 0,-11.18 -1.42,-11.18 ; -1.42,-10.41 0,-10.41 0,-9.91 -1.42,-9.91 ; -1.42,-9.14 0,-9.14 0,-8.64 -1.42,-8.64 ; -1.42,-7.87 0,-7.87 0,-7.37 -1.42,-7.37 ; -1.42,-6.6 0,-6.6 0,-6.1 -1.42,-6.1 ; -1.42,-5.33 0,-5.33 0,-4.83 -1.42,-4.83 ; -1.42,-4.06 0,-4.06 0,-3.56 -1.42,-3.56 ; -1.42,-2.79 0,-2.79 0,-2.29 -1.42,-2.29 ; -1.42,-1.52 0,-1.52 0,-1.02 -1.42,-1.02 ; -1.42,-0.25 0,-0.25 0,0.25 -1.42,0.25 ; -1.42,0.25 -1.42,-18.415 -5.82,-18.415 -5.82,0.635 -1.805,0.635 -1.42,0.25
  text "'.Designator'" at -2.78,-12.937 h1
Top Courtyard:
  lines w0.254: -6.35,-18.9 1.15,-18.9 1.15,1.15 -6.35,1.15 -6.35,-18.9
Top Designator:
  text ".Designator" at -10.218,-9.383 h1.52

## PinSocket_2x15_P1.27mm_Vertical [mm]
pads (30):
  rect 1x1 hole 0.7: 1(0,0)
  round 1 hole 0.7: 2(-1.27,0) 3(0,-1.27) 4(-1.27,-1.27) 5(0,-2.54) 6(-1.27,-2.54) 7(0,-3.81) 8(-1.27,-3.81) 9(0,-5.08) 10(-1.27,-5.08) 11(0,-6.35) 12(-1.27,-6.35) 13(0,-7.62) 14(-1.27,-7.62) 15(0,-8.89) 16(-1.27,-8.89) 17(0,-10.16) 18(-1.27,-10.16) 19(0,-11.43) 20(-1.27,-11.43) 21(0,-12.7) 22(-1.27,-12.7) 23(0,-13.97) 24(-1.27,-13.97) 25(0,-15.24) 26(-1.27,-15.24) 27(0,-16.51) 28(-1.27,-16.51) 29(0,-17.78) 30(-1.27,-17.78)
F.SilkS:
  lines w0.254: -1.578,-18.475 -2.22,-18.475 -2.22,0.695 -1.578,0.695 ; -0.962,-18.475 -0.308,-18.475 ; -0.962,0.695 -0.76,0.695 ; 0,0.76 0.95,0.76 0.95,0 ; 0.308,-18.475 0.95,-18.475 0.95,-0.635 0.76,-0.635
Top Assembly:
  lines w0.254: -2.16,-18.415 0.89,-18.415 0.89,-0.128 0.128,0.635 -2.16,0.635 -2.16,-18.415
  text "'.Designator'" at 0.205,-12.937 h1
Top Courtyard:
  lines w0.254: -2.67,-18.9 1.38,-18.9 1.38,1.15 -2.67,1.15 -2.67,-18.9
Top Designator:
  text ".Designator" at -8.263,-9.383 h1.52